# Altium footprint library CN_IDC20_09185207903.PcbLib: 1 footprints
Each footprint in its own frame and in the unit in brackets; x right, y up, seen from the top. Pads: shape width x height; smd on the part's side, far side on the other; paste and mask are expansions set on the pad; w line width, h text height; cw(c..) or ccw(c..) is an arc to the next point about the centre after c.
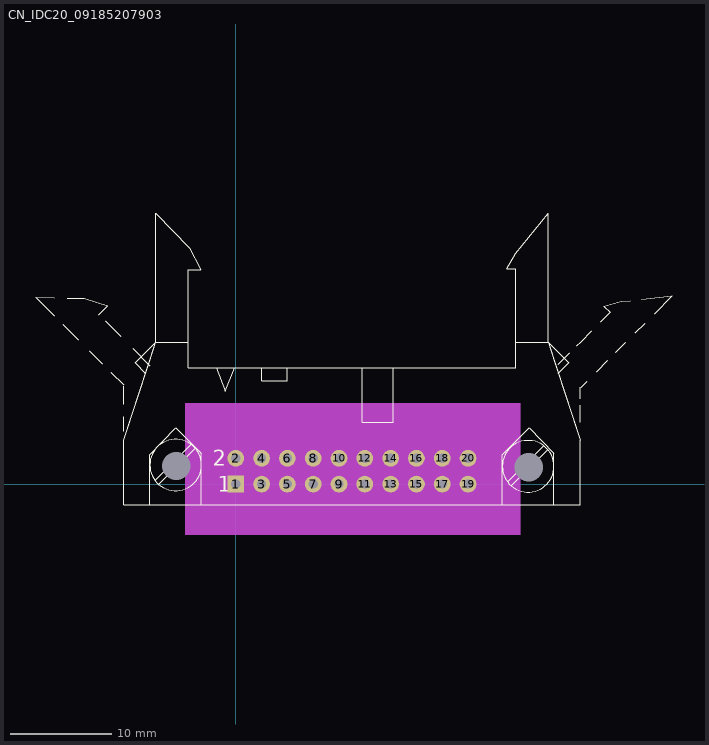
[diagram p0: the footprint, top view; thin cyan lines are the x and y axes]

## CN_IDC20_09185207903 [mm] "Connector; IDC, Thru-Hole; 20 Position; Right Angle; Pitch 2.54 mm; Body 45.00 x 8.5 x 23.30 mm (LxWxH), Locking levers"
height 23.3
pads (22):
  rect 1.65x1.65 hole 0.9: 1(0,0)
  round 1.65 hole 0.9: 2(0,2.54) 3(2.54,0) 4(2.54,2.54) 5(5.08,0) 6(5.08,2.54) 7(7.62,0) 8(7.62,2.54) 9(10.16,0) 10(10.16,2.54) 11(12.7,0) 12(12.7,2.54) 13(15.24,0) 14(15.24,2.54) 15(17.78,0) 16(17.78,2.54) 17(20.32,0) 18(20.32,2.54) 19(22.86,0) 20(22.86,2.54)
  round 0 hole 2.8 unplated mask+1.4: MH1(-5.842,1.778) MH2(28.829,1.651)
Top Overlay:
  circle w0.102: c28.778,1.753 r2.54
  circle w0.102: c-5.918,1.88 r2.54
  lines w0.102: -17.882,18.339 -19.685,18.39 -17.856,16.561 ; -17.018,15.723 -15.494,14.199 ; -16.612,18.313 -14.935,18.288 -12.598,17.577 -12.852,17.323 -13.487,16.688 ; -14.427,13.132 -13.132,11.836 ; -12.852,16.053 -11.328,14.529 ; -12.319,11.024 -11.049,9.779 ; -11.049,5.207 -11.049,6.604 ; -11.049,7.874 -11.049,9.652 ; -10.922,-2.032 33.909,-2.032 ; -10.16,13.36 -8.458,11.659 ; -8.89,10.922 -9.906,11.938 -7.874,13.97 ; -8.458,-2.032 -8.458,2.896 -5.918,5.563 -3.378,3.023 -3.378,-2.032 ; -7.95,0.356 -4.394,3.912 ; -7.569,-0.025 -4.013,3.531 ; 3.175,-2.032 -11.049,-2.032 ; 7.366,11.43 5.08,11.43 5.08,10.16 2.54,10.16 2.54,11.43 1.27,11.43 -0.127,11.43 -1.016,9.144 -1.905,11.43 -4.699,11.43 ; 12.446,11.43 12.446,6.096 15.494,6.096 15.494,11.43 27.559,11.43 ; 22.479,11.43 -4.699,11.43 ; 26.238,-2.032 26.238,2.896 28.905,5.563 31.318,3.023 31.318,-2.032 ; 26.746,0.229 30.302,3.785 ; 27.127,-0.152 30.683,3.404 ; 31.725,11.786 32.893,12.929 ; 31.75,10.922 32.766,11.938 30.734,13.97 ; 33.579,13.614 33.985,14.021 35.052,15.088 ; 33.909,6.096 33.909,7.747 ; 33.909,8.382 33.909,9.525 ; 33.985,9.55 34.569,10.135 ; 35.509,11.074 36.601,12.167 ; 35.941,15.977 36.855,16.916 36.22,17.526 37.922,17.983 38.837,18.059 ; 37.414,12.979 38.379,13.945 ; 39.319,14.884 40.284,15.85 ; 39.98,18.186 42.951,18.517 41.224,16.789 ; -11.049,-2.032 -11.049,4.318 ; -11.049,-2.032 33.909,-2.032 ; -11.049,-2.032 -11.049,4.318 ; -11.049,4.318 -7.874,13.97 ; -11.049,4.318 -8.509,11.938 -7.874,13.97 ; -7.874,13.97 -7.874,26.67 -4.572,23.241 -3.429,21.082 -3.81,21.082 -4.699,21.082 -4.699,20.193 -4.699,18.034 -4.699,16.383 -4.699,13.97 ; -7.874,13.97 -4.699,13.97 ; -7.874,13.97 -4.826,13.97 -4.699,13.97 ; -4.699,11.43 -4.699,13.97 ; -4.699,11.43 -4.699,13.97 ; 27.559,11.43 27.559,13.97 ; 27.559,11.43 27.559,13.97 ; 27.559,13.97 27.559,17.145 27.559,21.209 26.67,21.209 27.559,22.733 30.734,26.67 30.734,13.97 ; 27.559,13.97 30.734,13.97 ; 27.559,13.97 30.734,13.97 ; 30.734,13.97 31.369,11.938 ; 30.734,13.97 33.909,4.318 ; 30.734,13.97 31.369,11.938 ; 31.369,11.938 33.909,4.318 ; 33.909,-2.032 33.909,4.318 ; 33.909,-2.032 33.909,4.318
  text "2" at -2.28,1.79 h1.5
  text "1" at -1.78,-0.75 h1.5
Mechanical 3 keep-out:
  rectangle: -5,-5 28,8
3D body: height 8.6, standoff -3.2, extent -11.07,-1.054 33.93,24.696